# Altium footprint library BRE-3728.PcbLib: 1 footprints
Each footprint in its own frame and in the unit in brackets; x right, y up, seen from the top. Pads: shape width x height; smd on the part's side, far side on the other; paste and mask are expansions set on the pad; w line width, h text height; cw(c..) or ccw(c..) is an arc to the next point about the centre after c.
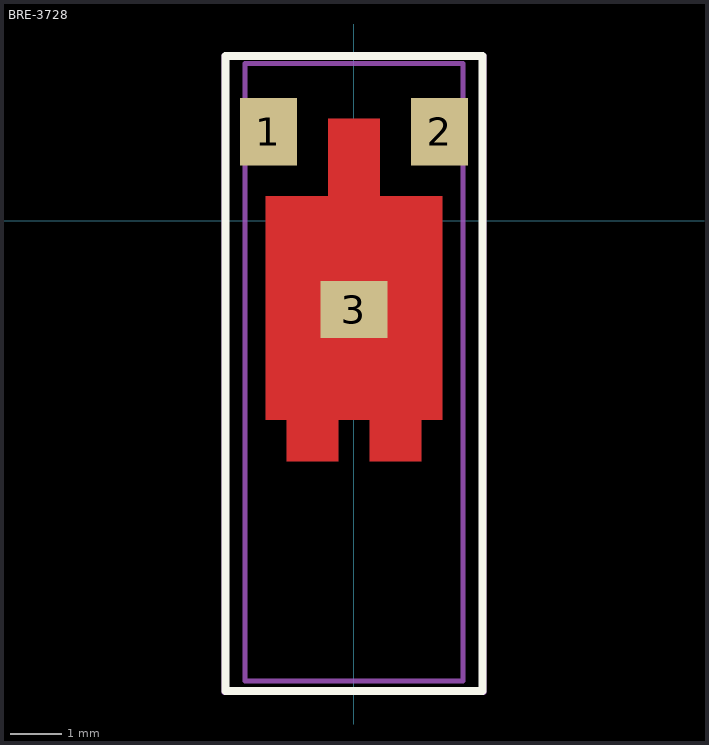
[diagram p0: the footprint, top view; thin cyan lines are the x and y axes]

## BRE-3728 [mm] "pitch 3.3mm Body 11.4X4mm High 3mm"
height 3
pads (3):
  rect 1.1x1.3 smd: 1(-1.65,1.714) 2(1.65,1.714)
  rect 1.3x1.1 smd: 3(0,-1.714)
Top Layer:
  region: 0.5,1.964 0.5,0.464 1.7,0.464 1.7,-3.835 1.3,-3.835 1.3,-4.635 0.3,-4.635 0.3,-3.835 -0.3,-3.835 -0.3,-4.635 -1.3,-4.635 -1.3,-3.835 -1.7,-3.835 -1.7,0.464 -0.5,0.464 -0.5,1.964
Top Overlay:
  lines w0.152: -2.476,-9.061 2.476,-9.061 2.476,3.175 -2.476,3.175 -2.476,-9.062
Mechanical 13:
  lines w0.1: -2.1,-8.874 -2.1,3.026 2.1,3.026 2.1,-8.874 -2.1,-8.874
Mechanical 15:
  lines w0.1: -2.502,-9.087 2.502,-9.087 2.502,3.175 -2.502,3.175 -2.502,-9.088
3D body: height -0.4, standoff -3.7, extent -2.1,-8.899 2.1,3.001